# EAGLE library part LMH6401IRMZR (library LMH6401IRMZR)
Differential Amplifiers 4.5 GHz Ultra Wideband Digital Variable Gain Amplifier 16-UQFN-HR -40 to 85 Source: Datasheet <http://www.ti.com/lit/ds/symlink/lmh6401.pdf>
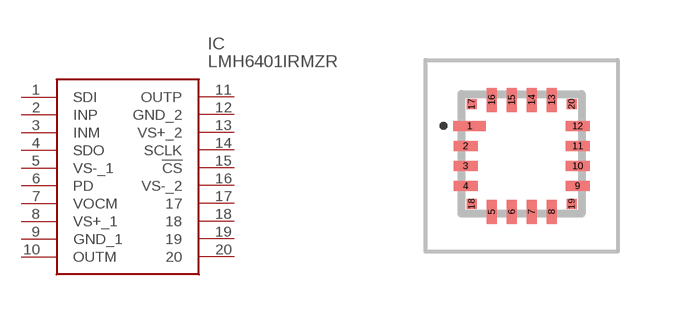
[diagram p0: symbol with the pads of LMH6401IRMZR; footprint LMH6401IRMZR]

Designator prefix IC

## LMH6401IRMZR (Description: Differential Amplifiers 4.5 GHz Ultra Wideband Digital Variable Gain Amplifier 16-UQFN-HR -40 to 85; Height: 0.65mm; Manufacturer_Name: Texas Instruments; Manufacturer_Part_Number: LMH6401IRMZR; Mouser_Part_Number: 595-LMH6401IRMZR; Mouser_Price-Stock: https://www.mouser.co.uk/ProductDetail/Texas-Instruments/LMH6401IRMZR?qs=zEQ6BYqA5vFvz%252BaadXvvtQ%3D%3D)  [LMH6401IRMZR]
1  SDI
2  INP
3  INM
4  SDO
5  VS-_1
6  PD
7  VOCM
8  VS+_1
9  GND_1
10  OUTM
11  OUTP
12  GND_2
13  VS+_2
14  SCLK
15  !CS
16  VS-_2
17  17
18  18
19  19
20  20

## Footprint LMH6401IRMZR (pad centres in mm)
RMZ0016A
smd 0.8 x 0.25: 1 -1.3,0.7
smd 0.6 x 0.25: 2 -1.4,0.2; 3 -1.4,-0.3; 4 -1.4,-0.8; 9 1.4,-0.8; 10 1.4,-0.3; 11 1.4,0.2; 12 1.4,0.7
smd 0.25 x 0.6: 5 -0.75,-1.45; 6 -0.25,-1.45; 7 0.25,-1.45; 8 0.75,-1.45; 13 0.75,1.35; 14 0.25,1.35; 15 -0.25,1.35; 16 -0.75,1.35
smd 0.25 x 0.25: 17 -1.25,1.25; 18 -1.25,-1.25; 19 1.25,-1.25; 20 1.25,1.25